# Altium footprint library Custom.PcbLib: 1 footprints
Each footprint in its own frame and in the unit in brackets; x right, y up, seen from the top. Pads: shape width x height; smd on the part's side, far side on the other; paste and mask are expansions set on the pad; w line width, h text height; cw(c..) or ccw(c..) is an arc to the next point about the centre after c.
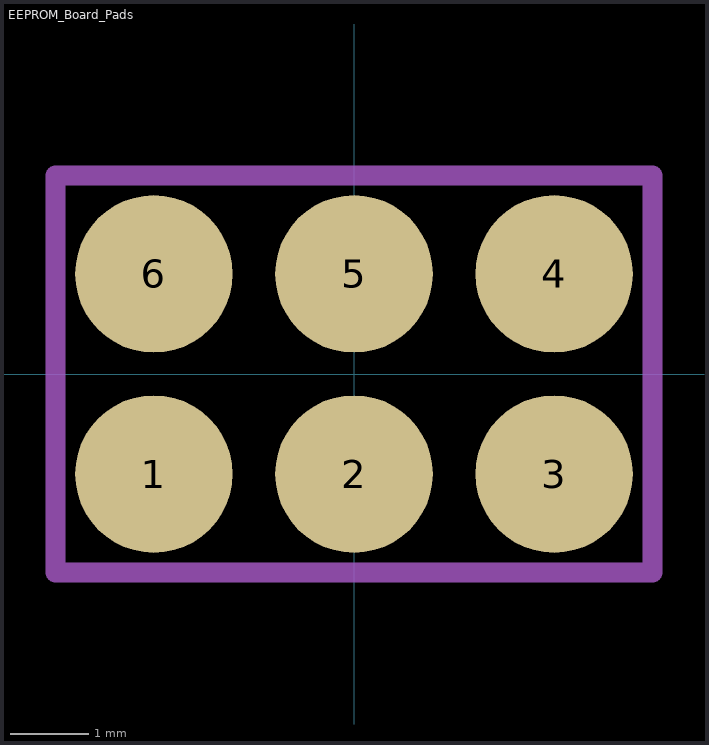
[diagram p0: the footprint, top view; thin cyan lines are the x and y axes]

## EEPROM_Board_Pads [mm]
pads (6):
  round 2 smd: 1(-2.54,-1.27) 2(0,-1.27) 3(2.54,-1.27) 4(2.54,1.27) 5(0,1.27) 6(-2.54,1.27)
F.SilkS:
  lines w0.254: -4.04,-2.77 -4.04,-0.923 -3.68,-0.923 -3.68,0.923 -4.04,0.923 -4.04,2.77 4.04,2.77 4.04,-2.77 -4.04,-2.77
F.CrtYd:
  lines w0.254: -3.79,-2.52 -3.79,2.52 3.79,2.52 3.79,-2.52 -3.79,-2.52